# EAGLE library part R4 (library dan-rcl)
Resistor pack x4
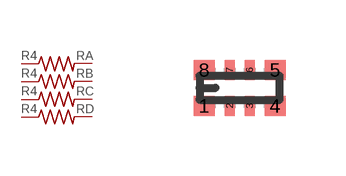
[diagram p0: symbol with the pads of 0402X4; footprint 0402X4]

Designator prefix R; gates A=R B=R C=R D=R

## R4-0402  [0402X4]
1  A:1  pas
2  B:1  pas
3  C:1  pas
4  D:1  pas
5  D:2  pas
6  C:2  pas
7  B:2  pas
8  A:2  pas

## Footprint 0402X4 (pad centres in mm)
0402 x 4 convex From Panasonic EXB28V101JX datasheet: http://industrial.panasonic.com/www-data/pdf/AOC0000/AOC0000PE6.pdf
smd 0.525 x 0.5: 1 -0.887,-0.45; 4 0.887,-0.45; 5 0.887,0.45; 8 -0.887,0.45
smd 0.25 x 0.5: 2 -0.25,-0.45; 3 0.25,-0.45; 6 0.25,0.45; 7 -0.25,0.45